# EAGLE library part PINHD-2X03 (library untitled)
PIN HEADER
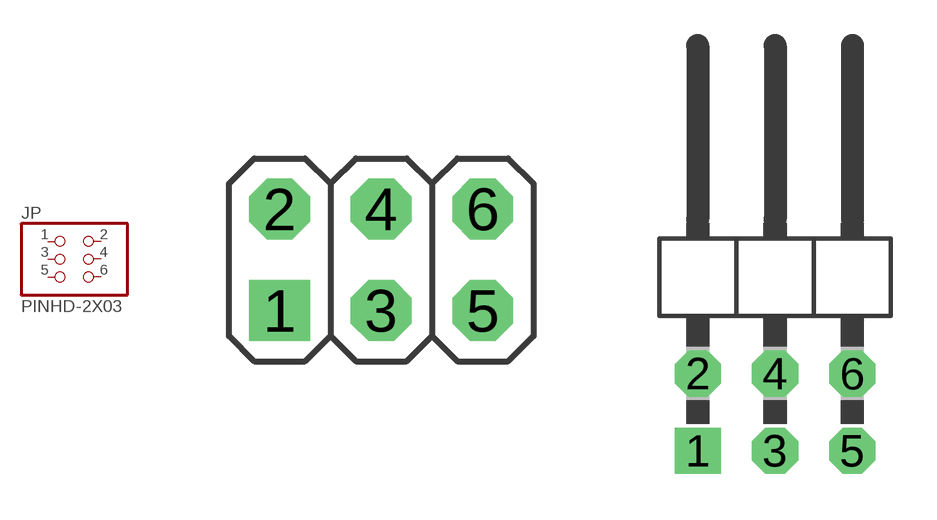
[diagram p25: symbol with the pads of 2X03; footprints 2X03, 2X03/90]

Designator prefix JP

## PINHD-2X03_2.54  [2X03]
1  1  pas
2  2  pas
3  3  pas
4  4  pas
5  5  pas
6  6  pas

## PINHD-2X03_2.54-90°  [2X03/90]
Pads as for 2X03

## PINHD-2X03_2.00  [2X03M]
Pads as for 2X03

## PINHD-2X03_2.54-SMD  [2X03SMD]
Pads as for 2X03

## PINHD-2X03_MICROMATCH  [MICROMATCH-6]
Pads as for 2X03

## PINHD-2X03_2.54-SMD-90°  [2X03SMD/90]
Pads as for 2X03

## Footprint 2X03 (pad centres in mm)
PIN HEADER - 2.54
drill 1.016 square: 1 -2.54,-1.27
drill 1.016 octagon: 2 -2.54,1.27; 3 0,-1.27; 4 0,1.27; 5 2.54,-1.27; 6 2.54,1.27

## Footprint 2X03/90 (pad centres in mm)
PIN HEADER - 2.54 90°
drill 1.016 square: 1 -2.54,-6.35
drill 1.016 octagon: 2 -2.54,-3.81; 3 0,-6.35; 4 0,-3.81; 5 2.54,-6.35; 6 2.54,-3.81

## Footprint 2X03M (pad centres in mm)
PIN HEADER - 2
drill 0.914 square: 1 -2,-1
drill 0.914 round: 2 -2,1; 3 0,-1; 4 0,1; 5 2,-1; 6 2,1

## Footprint 2X03SMD (pad centres in mm)
PIN HEADER - 2.54 SMD
smd 1.016 x 3.302: 1 -1.27,-3.81; 2 -1.27,1.27; 3 1.27,-3.81; 4 1.27,1.27; 5 3.81,-3.81; 6 3.81,1.27

## Footprint MICROMATCH-6 (pad centres in mm)
MicroMaTch 6 7-215464-6 / 0-215464-6 Drawing Number C-215464 DDEController.pdf
drill 0.813 round: 1 3.175,1.27; 2 1.905,-1.27; 3 0.635,1.27; 4 -0.635,-1.27; 5 -1.905,1.27; 6 -3.175,-1.27

## Footprint 2X03SMD/90 (pad centres in mm)
PIN HEADER - 2.54 90°
smd 1.016 x 1.778: 1 -1.27,-8.89; 2 -1.27,-5.08; 3 1.27,-8.89; 4 1.27,-5.08; 5 3.81,-8.89; 6 3.81,-5.08